# EAGLE library part PAM2423 (library Underwater-Camera-v2.0)
IC REG BOOST ADJUSTABLE 5.5A 8SO - SOP-8 (EP)
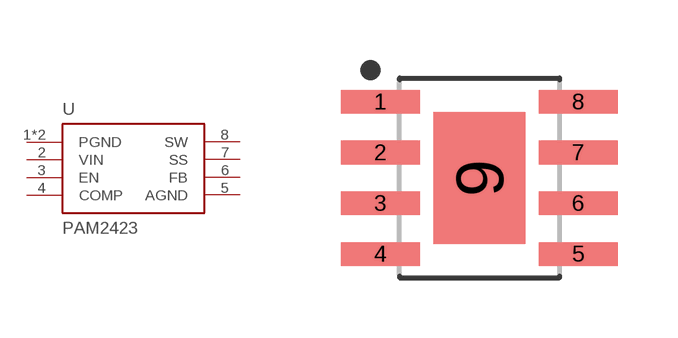
[diagram p0: symbol with the pads of SOIC127P600X175-9T230X330; footprint SOIC127P600X175-9T230X330]

Designator prefix -

## PAM2423SOP-8(EP)  [SOIC127P600X175-9T230X330]
1  PGND
2  VIN
3  EN
4  COMP
5  AGND
6  FB
7  SS
8  SW
9  PGND

## Footprint SOIC127P600X175-9T230X330 (pad centres in mm)
8-SOIC, 1.27 mm pitch, 6.00 mm span, 4.90 X 3.90 X 1.75 mm body, 3.30 X 2.30 mm thermal pad 8-pin SOIC package with 1.27 mm pitch, 6.00 mm span with body size 4.90 X 3.90 X 1.75 mm and thermal pad size 3.30 X 2.30 mm
smd 1.968 x 0.589: 1 -2.473,1.905; 2 -2.473,0.635; 3 -2.473,-0.635; 4 -2.473,-1.905; 5 2.473,-1.905; 6 2.473,-0.635; 7 2.473,0.635; 8 2.473,1.905
smd 2.3 x 3.3: 9 0,0